# Altium schematic symbol library 10029449-001RLF.SchLib: 1 symbol
Pins are listed as number, name and electrical type; pins without a type are passive.

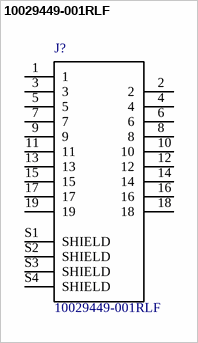
[diagram p0: symbol 10029449-001RLF]

## 10029449-001RLF
designator J?
Connector, Hdmi Type a, Receptacle, 19 Position, Full Reel; MF: Amphenol ICC; MP: 10029449-001RLF; Availability: Unavailable; Package: None; SnapEDA_Link: https://www.snapeda.com/parts/10029449-001RLF/Amphenol%20ICC/view-part/?ref=snap; Price: None; Value: *
footprint *AMPHENOL_10029449-001RLF_10029449-001RLF(Primary)
pins: 1, 2, 3, 4, 5, 6, 7, 8, 9, 10, 11, 12, 13, 14, 15, 16, 17, 18, 19, S1 SHIELD, S2 SHIELD, S3 SHIELD, S4 SHIELD